# EAGLE library part AP62200WU-7 (library ICs)
4.2V TO 18V INPUT, 2A LOW IQ SYNCHRONOUS BUCK CONVERTER
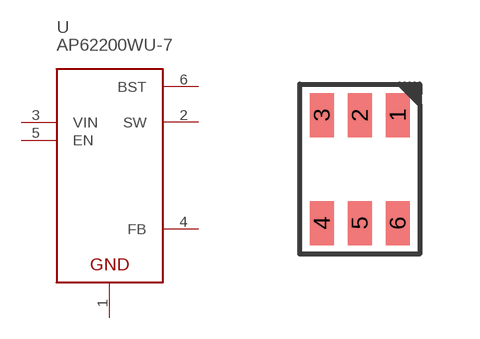
[diagram p291: symbol with the pads of SOT23-6; footprint SOT23-6]

Designator prefix U

## AP62200WU-7 (DIGIKEY: 31-AP62200WU-7TR-ND; HEIGHT: 1; PRICE_PER: 0.43; VALUE: AP62200WU-7)  [SOT23-6]
1  GND
2  SW
3  VIN
4  FB
5  EN
6  BST

## Footprint SOT23-6 (pad centres in mm)
smd 0.6 x 1.1: 1 0.95,1.35; 2 0,1.35; 3 -0.95,1.35; 4 -0.95,-1.35; 5 0,-1.35; 6 0.95,-1.35